# Altium footprint library Codec_board.PcbLib: 27 footprints (part 2 of 2)
Each footprint in its own frame and in the unit in brackets; x right, y up, seen from the top. Pads: shape width x height; smd on the part's side, far side on the other; paste and mask are expansions set on the pad; w line width, h text height; cw(c..) or ccw(c..) is an arc to the next point about the centre after c.
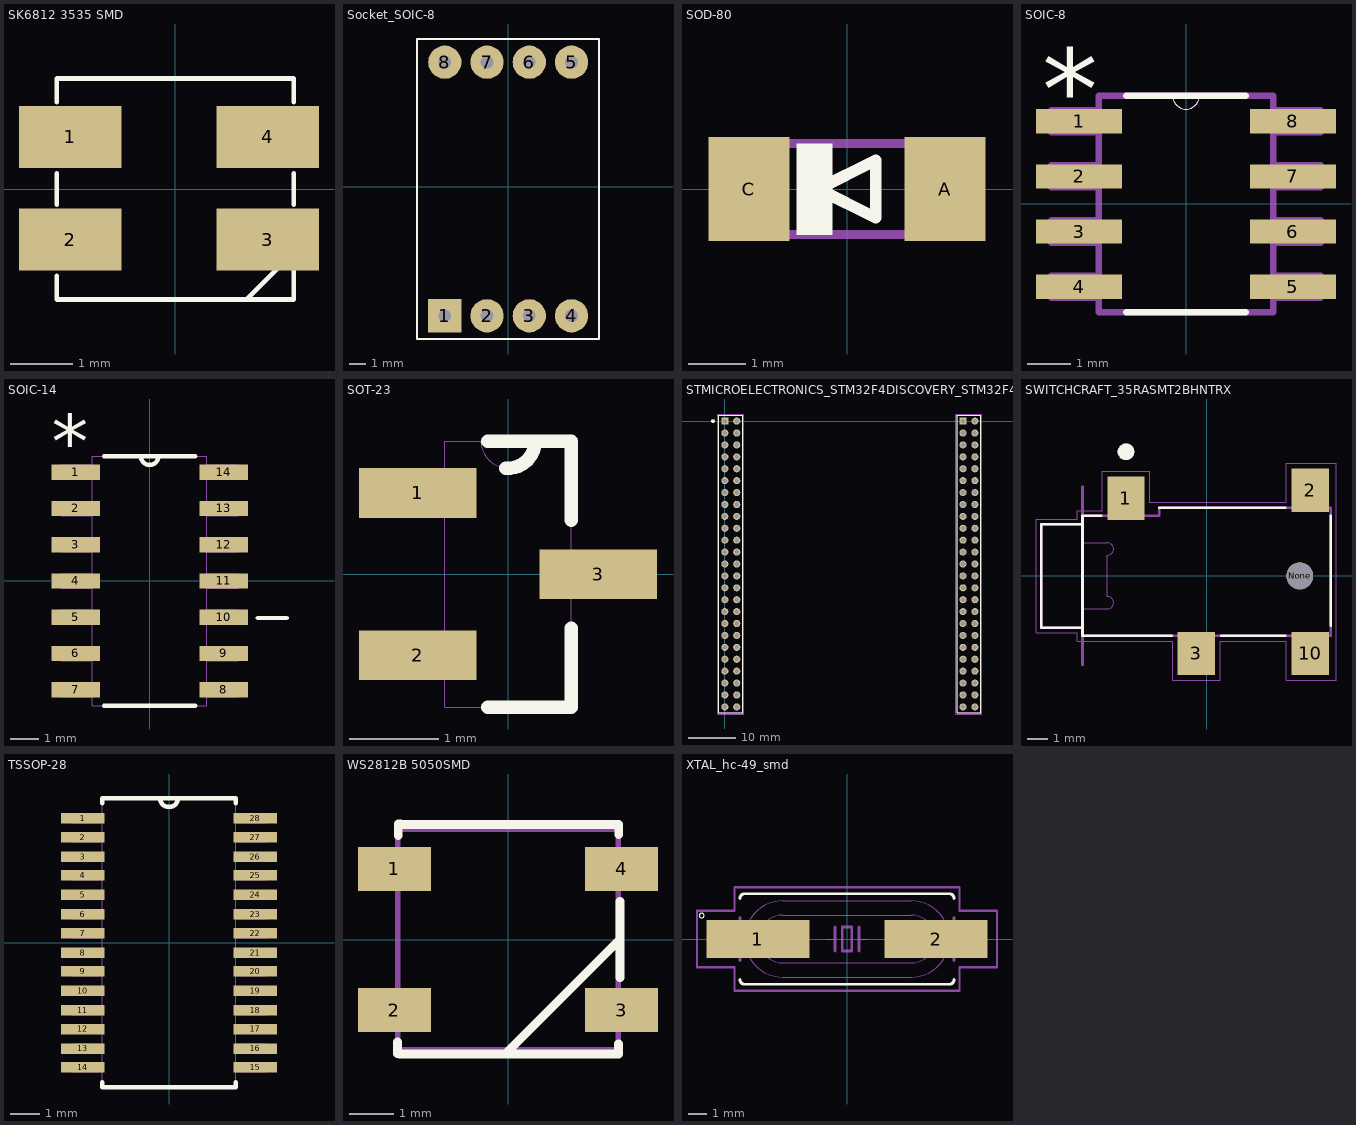
[diagram p1: the footprints below, top view; thin cyan lines are the x and y axes]

## SK6812 3535 SMD [mil]
pads (4):
  rect 65x39.37 smd: 1(-66.46,32.99) 2(-66.46,-32.01) 3(58.54,-32.01) 4(58.54,32.99)
Top Overlay:
  lines w3: -75,-55 -75,-70 75,-70 ; -75,-10 -75,10 ; -75,55 -75,70 75,70 75,55 ; 45,-70 75,-40 75,-70 ; 55,-70 60,-70 ; 75,-55 75,-70 ; 75,-10 75,10
3D body "SK6812MINI SMD3535 RGB.stp": height 39.37, standoff 0, extent -72.84,-68.9 72.84,68.9

## Socket_SOIC-8 [mil]
pads (8):
  rect 78.74x78.74 hole 30: 1(-150,-305)
  round 78.74 hole 30: 2(-50,-305) 3(50,-305) 4(150,-305) 5(150,295) 6(50,295) 7(-50,295) 8(-150,295)
Top Overlay:
  lines w5: -215.74,-360 -215.74,350 215,350 215,-360 -215.74,-360
3D body "sop127p-6mm-8 v2.step": height 564.96, standoff 500, extent -96.46,-121.14 96.45,111.14
3D body "DS1021-1x4SF11.stp": height 548.11, standoff 91.42, extent -199.99,245.01 200.01,345.01
3D body "DS1021-1x4SF11.stp": height 548.11, standoff 91.42, extent -199.99,-355 200.01,-255
3D body "DS1023-1x4SF11.stp": height 334.65, standoff -118.11, extent -215.74,-355 215.75,-255
3D body "DS1023-1x4SF11.stp": height 334.65, standoff -118.11, extent -215.74,245.01 215.76,345.01
3D body "Деталь.stp": height 500.87, standoff 430, extent -206.7,-359.32 206.69,349.34

## SOD-80 [mm] "for diodes"
pads (2):
  rect 1.4x1.8 smd: A(1.7,0) C(-1.7,0)
Top Overlay:
  region: -0.867,0.787 -0.254,0.787 -0.254,-0.791 -0.867,-0.791
  lines w0.203: -0.5,0 0.5,0.5 0.5,-0.5 -0.5,0
Mechanical 1:
  region: -1.858,0.864 -1.295,0.864 -1.295,-0.865 -1.858,-0.865
  region: 1.299,0.864 1.854,0.864 1.854,-0.866 1.299,-0.866
  lines w0.152: -1.321,-0.787 1.321,-0.787 ; -1.321,0.787 1.321,0.787
3D body "SOD-80C.SLDPRT": height 1.57, standoff -0.04, extent -1.85,-0.803 1.85,0.803

## SOIC-8 [mil]
pads (8):
  rect 78x22 smd: 1(-97,75) 2(-97,25) 3(-97,-25) 4(-97,-75) 5(97,-75) 6(97,-25) 7(97,25) 8(97,75)
Top Overlay:
  lines w0: -12,98 ccw(c0,98) 12,98
  lines w6: -54,-98 54,-98 ; -54,98 -12,98 12,98 54,98
  text "*" at -130.25,67.33 h73.82
Mechanical 1:
  lines w0: -12,98 ccw(c0,98) 12,98
  lines w6: -122,-85 -79,-85 -79,-65 -122,-65 -122,-85 ; -122,-35 -79,-35 -79,-15 -122,-15 -122,-35 ; -122,15 -79,15 -79,35 -122,35 -122,15 ; -122,65 -79,65 -79,85 -122,85 -122,65 ; -79,-98 -79,98 -12,98 12,98 79,98 79,-98 -79,-98 ; 79,-85 122,-85 122,-65 79,-65 79,-85 ; 79,-35 122,-35 122,-15 79,-15 79,-35 ; 79,15 122,15 122,35 79,35 79,15 ; 79,65 122,65 122,85 79,85 79,65
  text "*" at -130.04,67.19 h73.82
3D body "sop127p-6mm-8 v2.step": height 64.96, standoff 0, extent -116.13,-96.46 116.15,96.46

## SOIC-14 [mil]
pads (14):
  rect 67x21 smd: 1(-102,150) 2(-102,100) 3(-102,50) 4(-102,0) 5(-102,-50) 6(-102,-100) 7(-102,-150) 8(102,-150) 9(102,-100) 10(102,-50) 11(102,0) 12(102,50) 13(102,100) 14(102,150)
Top Overlay:
  lines w6: -63,-172 63,-172 ; -63,172 -12,172 ; 63,172 12,172 ; 149,-51 189,-51 ; -12,172 ccw(c0,172) 12,172 ; -12,172 12,172
  text "*" at -135.25,156.46 h73.82
Mechanical 1:
  lines w0: -12,172 ccw(c0,172) 12,172 ; -12,172 12,172 ; -12,172 -79,172 -79,-172 79,-172 79,172 12,172 ; -122,-160 -122,-140 -79,-140 -79,-160 -122,-160 ; -122,-110 -122,-90 -79,-90 -79,-110 -122,-110 ; -122,-60 -122,-40 -79,-40 -79,-60 -122,-60 ; -122,-10 -122,10 -79,10 -79,-10 -122,-10 ; -122,40 -122,60 -79,60 -79,40 -122,40 ; -122,90 -122,110 -79,110 -79,90 -122,90 ; -122,140 -122,160 -79,160 -79,140 -122,140 ; 79,-160 79,-140 122,-140 122,-160 79,-160 ; 79,-110 79,-90 122,-90 122,-110 79,-110 ; 79,-60 79,-40 122,-40 122,-60 79,-60 ; 79,-10 79,10 122,10 122,-10 79,-10 ; 79,40 79,60 122,60 122,40 79,40 ; 79,90 79,110 122,110 122,90 79,90 ; 79,140 79,160 122,160 122,140 79,140
  text "*" at -135.23,156.44 h73.82
3D body "sop127p-6.5mm-14 v1.step": height 64.96, standoff 0, extent -116.14,-171.26 116.15,171.26

## SOT-23 [mil]
pads (3):
  rect 52x22 smd: 1(-40,36) 2(-40,-36) 3(40,0)
Top Overlay:
  lines w6: -9,-59 28,-59 28,-24 ; -9,59 12,59 28,59 28,24 ; -1.04,47 ccw(c0,58.96) 12,58.96
Mechanical 1:
  lines w0: -28,-46 -28,-59 28,-59 28,-10 ; -28,-46 -28,-26 ; -28,-46 -49,-46 -49,-26 -28,-26 ; -28,-26 -28,26 ; -28,26 -28,46 ; -28,26 -49,26 -49,46 -28,46 ; -28,46 -28,59 -12,59 ; -12,59 ccw(c0,59) 12,59 ; -12,59 12,59 ; 12,59 28,59 28,10 ; 28,-10 28,10 ; 28,-10 49,-10 49,10 28,10
3D body "SC-59A.stp": height 57.09, standoff 0, extent -60,-61.02 58.11,61.02

## STMICROELECTRONICS_STM32F4DISCOVERY_STM32F4DISCOVERY [mm]
pads (100):
  rect 1.508x1.508 hole 1: P1(0,0) P51(50.8,0)
  round 1.508 hole 1: P2(2.54,0) P3(0,-2.54) P4(2.54,-2.54) P5(0,-5.08) P6(2.54,-5.08) P7(0,-7.62) P8(2.54,-7.62) P9(0,-10.16) P10(2.54,-10.16) P11(0,-12.7) P12(2.54,-12.7) P13(0,-15.24) P14(2.54,-15.24) P15(0,-17.78) P16(2.54,-17.78) P17(0,-20.32) P18(2.54,-20.32) P19(0,-22.86) P20(2.54,-22.86) P21(0,-25.4) P22(2.54,-25.4) P23(0,-27.94) P24(2.54,-27.94) P25(0,-30.48) P26(2.54,-30.48) P27(0,-33.02) P28(2.54,-33.02) P29(0,-35.56) P30(2.54,-35.56) P31(0,-38.1) P32(2.54,-38.1) P33(0,-40.64) P34(2.54,-40.64) P35(0,-43.18) P36(2.54,-43.18) P37(0,-45.72) P38(2.54,-45.72) P39(0,-48.26) P40(2.54,-48.26) P41(0,-50.8) P42(2.54,-50.8) P43(0,-53.34) P44(2.54,-53.34) P45(0,-55.88) P46(2.54,-55.88) P47(0,-58.42) P48(2.54,-58.42) P49(0,-60.96) P50(2.54,-60.96) P52(53.34,0) P53(50.8,-2.54) P54(53.34,-2.54) P55(50.8,-5.08) P56(53.34,-5.08) P57(50.8,-7.62) P58(53.34,-7.62) P59(50.8,-10.16) P60(53.34,-10.16) P61(50.8,-12.7) P62(53.34,-12.7) P63(50.8,-15.24) P64(53.34,-15.24) P65(50.8,-17.78) P66(53.34,-17.78) P67(50.8,-20.32) P68(53.34,-20.32) P69(50.8,-22.86) P70(53.34,-22.86) P71(50.8,-25.4) P72(53.34,-25.4) P73(50.8,-27.94) P74(53.34,-27.94) P75(50.8,-30.48) P76(53.34,-30.48) P77(50.8,-33.02) P78(53.34,-33.02) P79(50.8,-35.56) P80(53.34,-35.56) P81(50.8,-38.1) P82(53.34,-38.1) P83(50.8,-40.64) P84(53.34,-40.64) P85(50.8,-43.18) P86(53.34,-43.18) P87(50.8,-45.72) P88(53.34,-45.72) P89(50.8,-48.26) P90(53.34,-48.26) P91(50.8,-50.8) P92(53.34,-50.8) P93(50.8,-53.34) P94(53.34,-53.34) P95(50.8,-55.88) P96(53.34,-55.88) P97(50.8,-58.42) P98(53.34,-58.42) P99(50.8,-60.96) P100(53.34,-60.96)
Top Overlay:
  circle w0.4: c-2.54,0 r0.2
  lines w0.127: -1.27,-62.23 -1.27,1.27 3.81,1.27 3.81,-62.23 -1.27,-62.23 ; 49.53,-62.23 49.53,1.27 54.61,1.27 54.61,-62.23 49.53,-62.23
Mechanical 1:
  circle w0.4: c-2.54,0 r0.2
  lines w0.05: -1.52,-62.48 -1.52,1.52 4.06,1.52 4.06,-62.48 -1.52,-62.48 ; 49.28,-62.48 54.86,-62.48 54.86,1.52 49.28,1.52 49.28,-62.48
  lines w0.127: -1.27,-62.23 -1.27,1.27 3.81,1.27 3.81,-62.23 -1.27,-62.23 ; 49.53,-62.23 49.53,1.27 54.61,1.27 54.61,-62.23 49.53,-62.23
3D body "DS1023-2x5SF11.stp": height 8.5, standoff -3, extent 49.57,-63.392 54.57,-49.892
3D body "DS1023-2x5SF11.stp": height 8.5, standoff -3, extent -1.23,-63.392 3.77,-49.892
3D body "DS1023-2x20SF11.stp": height 8.5, standoff -3, extent 49.57,-49.949 54.57,1.651
3D body "DS1023-2x20SF11.stp": height 8.5, standoff -3, extent -1.23,-49.949 3.77,1.651

## SWITCHCRAFT_35RASMT2BHNTRX [mm]
pads (5):
  rect 1.8x2.1 smd: 1(-3.9,3.75) 2(5,4.15) 3(-0.5,-3.75) 10(5,-3.75)
  round 1.3 hole 1.3 unplated: None(4.5,0)
Top Overlay:
  circle w0.4: c-3.9,6 r0.2
  lines w0.127: -5.1,2.9 -6,2.9 -6,2.5 ; -2.29,3.3 3.8,3.3 ; -1.7,-2.9 -6,-2.9 -6,-2.5 ; 0.7,-2.9 3.8,-2.9 ; 6,-2.4 6,2.9 ; -6,-2.5 -8,-2.5 -8,2.5 -6,2.5 ; -6,-2.5 -6,2.5
Mechanical 1:
  circle w0.4: c-3.9,6 r0.2
  lines w0: -6,-3.3 -6,-1.6 -4.8,-1.6 ccw(c-4.8,-1.3) -4.8,-1 -4.8,1 ccw(c-4.8,1.3) -4.8,1.6 -6,1.6 -6,3.3
  lines w0.05: -8.25,-2.75 -8.25,2.75 -6.25,2.75 -6.25,3.15 -5.05,3.15 -5.05,5.05 -2.75,5.05 -2.75,3.55 3.85,3.55 3.85,5.45 6.25,5.45 6.25,-5.05 3.85,-5.05 3.85,-3.15 0.65,-3.15 0.65,-5.05 -1.65,-5.05 -1.65,-3.15 -6.25,-3.15 -6.25,-2.75 -8.25,-2.75
  lines w0.127: -6,-4.3 -6,4.3 ; -6,-2.5 -8,-2.5 -8,2.5 -6,2.5 ; -6,-2.9 6,-2.9 6,3.3 -2.29,3.3 -2.29,2.9 -6,2.9 -6,-2.9
3D body "CUI_SJ-3524-SMT-TR.STEP": height 5.1, standoff -0.7, extent -8.484,-4.5 10.516,4.5

## TSSOP-28 [mil]
pads (28):
  rect 58x14 smd: 1(-115,166) 2(-115,141) 3(-115,115) 4(-115,90) 5(-115,64) 6(-115,38) 7(-115,13) 8(-115,-13) 9(-115,-38) 10(-115,-64) 11(-115,-90) 12(-115,-115) 13(-115,-141) 14(-115,-166) 15(115,-166) 16(115,-141) 17(115,-115) 18(115,-90) 19(115,-64) 20(115,-38) 21(115,-13) 22(115,13) 23(115,38) 24(115,64) 25(115,90) 26(115,115) 27(115,141) 28(115,166)
Top Overlay:
  lines w6: -89,-186 -89,-193 89,-193 89,-186 ; -89,186 -89,193 -12,193 ; 89,186 89,193 12,193 ; -12,193 ccw(c0,193) 12,193 ; -12,193 12,193
Mechanical 1:
  lines w0: -12,193 ccw(c0,193) 12,193 ; -12,193 -89,193 -89,-193 89,-193 89,193 12,193 ; -12,193 12,193 ; -130,-172 -89,-172 -89,-160 -130,-160 -130,-172 ; -130,-147 -89,-147 -89,-135 -130,-135 -130,-147 ; -130,-121 -89,-121 -89,-109 -130,-109 -130,-121 ; -130,-96 -89,-96 -89,-84 -130,-84 -130,-96 ; -130,-70 -89,-70 -89,-58 -130,-58 -130,-70 ; -130,-44 -89,-44 -89,-32 -130,-32 -130,-44 ; -130,-19 -89,-19 -89,-7 -130,-7 -130,-19 ; -130,7 -89,7 -89,19 -130,19 -130,7 ; -130,32 -89,32 -89,44 -130,44 -130,32 ; -130,58 -89,58 -89,70 -130,70 -130,58 ; -130,84 -89,84 -89,96 -130,96 -130,84 ; -130,109 -89,109 -89,121 -130,121 -130,109 ; -130,135 -89,135 -89,147 -130,147 -130,135 ; -130,160 -89,160 -89,172 -130,172 -130,160 ; 89,-172 130,-172 130,-160 89,-160 89,-172 ; 89,-147 130,-147 130,-135 89,-135 89,-147 ; 89,-121 130,-121 130,-109 89,-109 89,-121 ; 89,-96 130,-96 130,-84 89,-84 89,-96 ; 89,-70 130,-70 130,-58 89,-58 89,-70 ; 89,-44 130,-44 130,-32 89,-32 89,-44 ; 89,-19 130,-19 130,-7 89,-7 89,-19 ; 89,7 130,7 130,19 89,19 89,7 ; 89,32 130,32 130,44 89,44 89,32 ; 89,58 130,58 130,70 89,70 89,58 ; 89,84 130,84 130,96 89,96 89,84 ; 89,109 130,109 130,121 89,121 89,109 ; 89,135 130,135 130,147 89,147 89,135 ; 89,160 130,160 130,172 89,172 89,160
3D body "TSSOP-28.stp": height 43.67, standoff 0.39, extent -126.57,-177.16 126.6,177.17

## WS2812B 5050SMD [mm]
pads (4):
  rect 1.651x1 smd: 1(-2.577,1.6) 2(-2.577,-1.6) 3(2.577,-1.6) 4(2.577,1.6)
Top Overlay:
  lines w0.203: -2.51,-2.319 -2.51,-2.591 -2.459,-2.591 -2.459,-2.593 2.51,-2.593 2.51,-2.367 ; -2.489,2.362 -2.489,2.616 -2.438,2.616 -2.438,2.611 2.512,2.611 2.512,2.38 ; 0,-2.54 2.54,0 ; 2.54,-0.864 2.54,0 ; 2.54,0.864 2.54,0
Mechanical 1:
  lines w0.127: -2.5,-2.5 -2.5,2.5 2.5,2.5 2.5,-2.5 -2.5,-2.5
3D body "WS2812_RGB_LED_updated.stp": height 1.5, standoff -0.2, extent -2.675,-2.475 2.675,2.475

## XTAL_hc-49_smd [mm]
pads (2):
  rect 5.5x2 smd: 1(-4.75,0) 2(4.75,0)
Top Overlay:
  circle w0: c-7.75,1.25 r0.127
  lines w0.152: -5.715,-2.159 ccw(c-5.461,-2.159) -5.461,-2.413 5.461,-2.413 ccw(c5.461,-2.159) 5.715,-2.159 ; -5.715,2.159 cw(c-5.461,2.159) -5.461,2.413 5.461,2.413 cw(c5.461,2.159) 5.715,2.159
Mechanical 1:
  lines w0.051: -5.114,-1.136 ccw(c-3.429,0) -3.429,-2.032 3.429,-2.032 ccw(c3.429,0) 5.113,-1.136 ccw(c3.429,0) 5.114,1.136 ; -5.114,-1.136 cw(c-3.429,0) -5.114,1.136 cw(c-3.429,0) -3.429,2.032 3.429,2.032 cw(c3.429,0) 5.114,1.136 ; -1.143,0 -0.635,0 ; 0.635,0 1.143,0 ; -3.986,-1.141 cw(c-3.429,0) -3.986,1.141 cw(c-3.429,0) -3.429,1.27 3.429,1.27 cw(c3.429,0) 3.986,1.141 cw(c3.429,0) 3.986,-1.141 cw(c3.429,0) 3.429,-1.27 -3.429,-1.27 cw(c-3.429,0) -3.986,-1.141
  lines w0.127: -8,-1.5 -6,-1.5 -6,-2.75 6,-2.75 6,-1.5 8,-1.5 8,1.5 6,1.5 6,2.75 -6,2.75 -6,1.5 -8,1.5 -8,-1.5
  lines w0.152: -5.715,-1.143 -5.715,1.143 ; -5.715,-0.381 -6.477,-0.381 -6.477,0.381 -5.715,0.381 ; -0.635,-0.635 -0.635,0 -0.635,0.635 ; 0.635,-0.635 0.635,0 0.635,0.635 ; 5.715,-1.143 5.715,-0.381 ; 5.715,1.143 5.715,0.381 ; 5.715,-0.381 6.477,-0.381 6.477,0.381 5.715,0.381 ; 5.715,-0.381 5.715,0.381 ; -0.254,-0.635 0.254,-0.635 0.254,0.635 -0.254,0.635 -0.254,-0.635
3D body "crystal_hc-49-smd.step": height 4.2, standoff 0, extent -5.807,-2.35 5.802,2.35